# Altium integrated library B4B-PH-SM4-TB.IntLib: 1 symbol
Pins are listed as number, name and electrical type; pins without a type are passive.

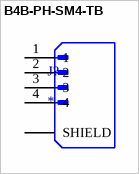
[diagram p0: symbol B4B-PH-SM4-TB]

## B4B-PH-SM4-TB
designator J?
MF: {'manufacturer': u'JST Sales America Inc.'}; MP: B4B-PH-SM4-TB; Package: None; Price: None; Value: *; Availability: Unavailable
footprint JST_B4B-PH-SM4-TB
pins: 1, 2, 3, 4, SH1 SHIELD, SH2 SHIELD